# Altium footprint library E-pico.PcbLib: 10 footprints
Each footprint in its own frame and in the unit in brackets; x right, y up, seen from the top. Pads: shape width x height; smd on the part's side, far side on the other; paste and mask are expansions set on the pad; w line width, h text height; cw(c..) or ccw(c..) is an arc to the next point about the centre after c.
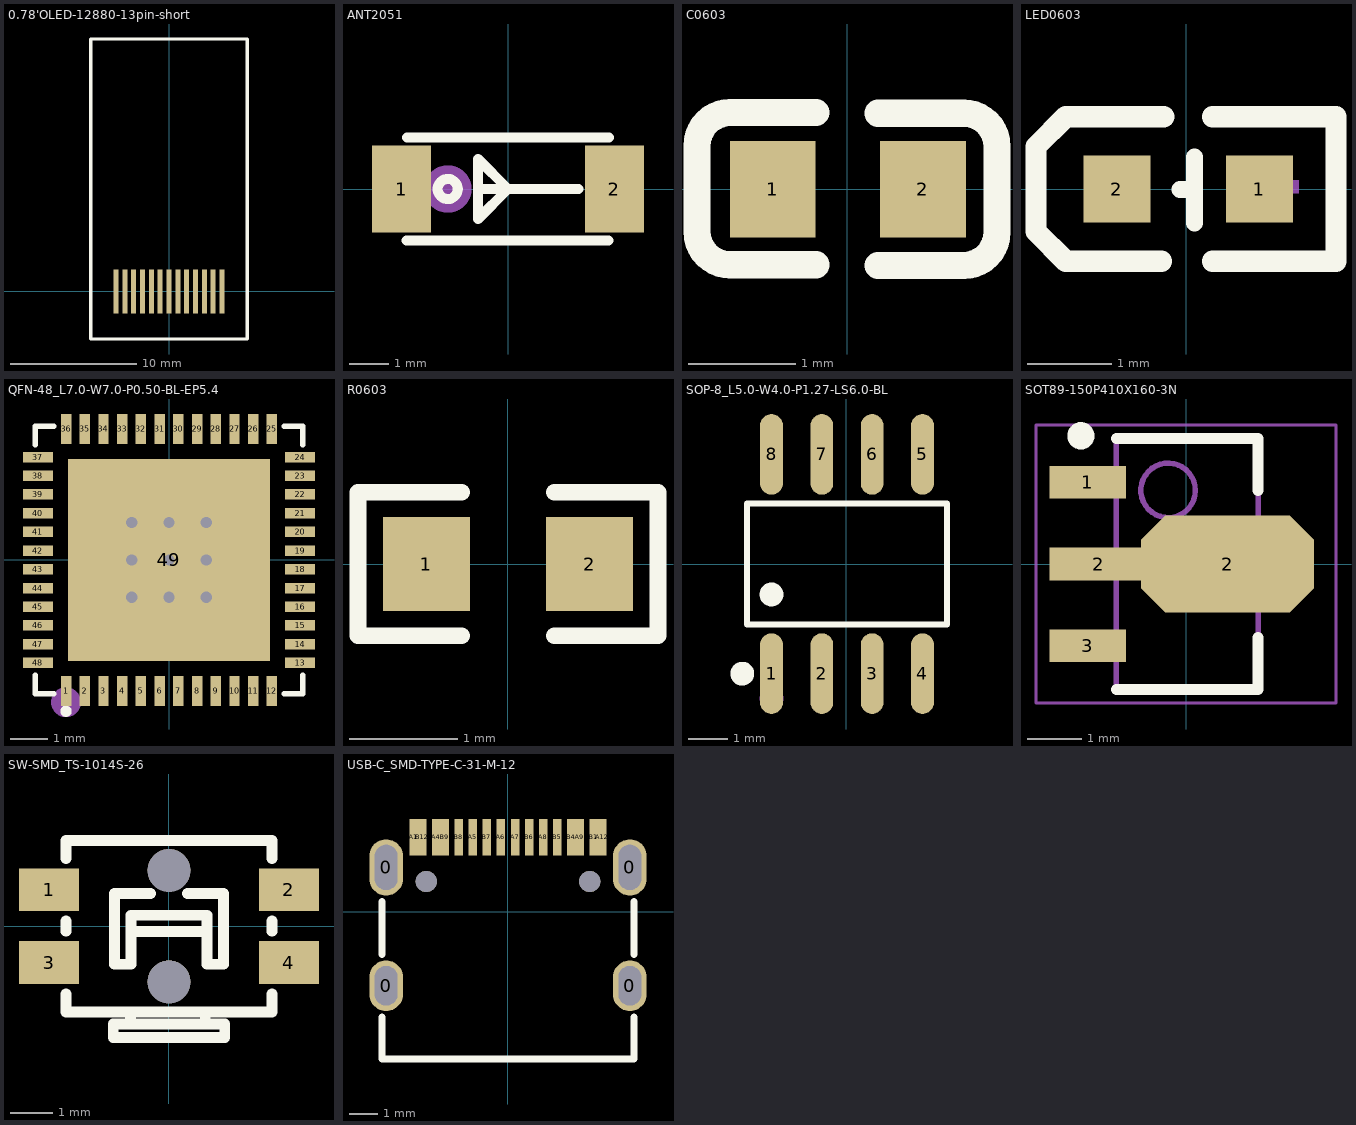
[diagram p0: the footprints below, top view; thin cyan lines are the x and y axes]

## 0.78'OLED-12880-13pin-short [mm]
pads (14):
  rect 0.4x3.5 smd: 1(-4.2,0) 1(-4.2,0) 2(-3.5,0) 3(-2.8,0) 4(-2.1,0) 5(-1.4,0) 6(-0.7,0) 7(0,0) 8(0.7,0) 9(1.4,0) 10(2.1,0) 11(2.8,0) 12(3.5,0) 13(4.2,0)
Top Overlay:
  lines w0.254: -6.2,-3.772 6.2,-3.772 6.2,20.028 -6.2,20.028 -6.2,-3.772

## ANT2051 [mm]
pads (2):
  rect 1.5x2.2 smd: 1(-2.69,0) 2(2.69,0)
Top Overlay:
  circle w0.254: c-1.524,0 r0.254
  lines w0.254: -2.56,-1.3 2.539,-1.3 ; -2.55,1.3 2.55,1.3 ; -0.762,0 1.778,0 ; -0.762,-0.762 -0.762,0.762 0,0 -0.762,-0.762
Mechanical 15:
  circle w0.6: c-1.524,0 r0.3
3D body "AN2051-245.stp": height 1.2, standoff 0, extent -2.607,-0.996 2.591,1.003

## C0603 [mm]
pads (2):
  rect 0.8x0.9 smd: 1(-0.692,-0.003) 2(0.708,-0.003)
Top Overlay:
  lines w0.254: -0.288,-0.707 -1.088,-0.707 cw(c-1.088,-0.397) -1.398,-0.397 -1.398,0.403 cw(c-1.088,0.403) -1.088,0.713 -0.288,0.713 ; 0.288,-0.713 1.088,-0.713 ccw(c1.088,-0.403) 1.398,-0.403 1.398,0.397 ccw(c1.088,0.397) 1.088,0.707 0.288,0.707
3D body "C0603.stp": height 0.8, standoff 0, extent -0.8,-0.4 0.8,0.4

## LED0603 [mm]
pads (2):
  rect 0.8x0.8 smd: 1(0.876,0) 2(-0.826,0)
Top Overlay:
  lines w0.203: -0.074,-0.008 0.102,-0.008 ; 0.102,-0.406 0.102,0.381
  lines w0.254: -0.292,-0.864 -1.435,-0.864 -1.791,-0.508 -1.791,0.508 -1.435,0.864 -0.267,0.864 ; 0.318,-0.864 1.791,-0.864 1.791,0.864 0.318,0.864
Mechanical 15:
  region: 0.686,0.102 1.346,0.102 1.346,-0.051 0.686,-0.051
  region: 0.961,-0.275 0.961,0.385 1.113,0.385 1.113,-0.275
  region: -1.168,0.05 -0.508,0.05 -0.508,-0.103 -1.168,-0.103
3D body "ALSRobot-LED0603(G).step": height 0.6, standoff 0, extent -0.81,-0.4 0.81,0.4

## QFN-48_L7.0-W7.0-P0.50-BL-EP5.4 [mm]
pads (49):
  rect 0.28x0.8 smd: 1(-2.75,-3.5) 2(-2.25,-3.5) 3(-1.75,-3.5) 4(-1.25,-3.5) 5(-0.75,-3.5) 6(-0.25,-3.5) 7(0.25,-3.5) 8(0.75,-3.5) 9(1.25,-3.5) 10(1.75,-3.5) 11(2.25,-3.5) 12(2.75,-3.5) 25(2.75,3.5) 26(2.25,3.5) 27(1.75,3.5) 28(1.25,3.5) 29(0.75,3.5) 30(0.25,3.5) 31(-0.25,3.5) 32(-0.75,3.5) 33(-1.25,3.5) 34(-1.75,3.5) 35(-2.25,3.5) 36(-2.75,3.5)
  rect 0.8x0.28 smd: 13(3.5,-2.75) 14(3.5,-2.25) 15(3.5,-1.75) 16(3.5,-1.25) 17(3.5,-0.75) 18(3.5,-0.25) 19(3.5,0.25) 20(3.5,0.75) 21(3.5,1.25) 22(3.5,1.75) 23(3.5,2.25) 24(3.5,2.75) 37(-3.5,2.75) 38(-3.5,2.25) 39(-3.5,1.75) 40(-3.5,1.25) 41(-3.5,0.75) 42(-3.5,0.25) 43(-3.5,-0.25) 44(-3.5,-0.75) 45(-3.5,-1.25) 46(-3.5,-1.75) 47(-3.5,-2.25) 48(-3.5,-2.75)
  rect 5.4x5.4 smd: 49(0,0)
via 0,0 diameter 0.61 hole 0.305
via -1,0 diameter 0.61 hole 0.305
via 1,-1 diameter 0.61 hole 0.305
via -1,-1 diameter 0.61 hole 0.305
via 1,0 diameter 0.61 hole 0.305
via 1,1 diameter 0.61 hole 0.305
via -1,1 diameter 0.61 hole 0.305
via 0,1 diameter 0.61 hole 0.305
via 0,-1 diameter 0.61 hole 0.305
Top Overlay:
  circle w0.15: c-2.75,-4.04 r0.075
  lines w0.152: -3.576,-3.08 -3.576,-3.576 -3.08,-3.576 ; -3.576,3.081 -3.576,3.576 -3.08,3.576 ; 3.081,-3.576 3.576,-3.576 3.576,-3.08 ; 3.081,3.576 3.576,3.576 3.576,3.081
Mechanical 15:
  circle w0.4: c-2.75,-3.8 r0.2
3D body "QFN48.step": height 0.9, standoff 0, extent -3.51,-3.51 3.51,3.51

## R0603 [mm]
pads (2):
  rect 0.806x0.864 smd: 1(-0.753,0) 2(0.753,0)
Top Overlay:
  lines w0.152: -0.426,-0.661 -1.385,-0.661 -1.385,0.661 -0.426,0.661 ; 0.426,-0.661 1.385,-0.661 1.385,0.661 0.426,0.661
Top Paste:
  region: 1.195,0.45 0.395,0.45 0.345,0.4 0.345,0.172 0.715,0.172 0.715,-0.158 0.345,-0.158 0.345,-0.4 0.395,-0.45 1.195,-0.45 1.245,-0.4 1.245,0.4
  region: -0.355,0.4 -0.355,0.172 -0.735,0.172 -0.735,-0.158 -0.355,-0.158 -0.355,-0.4 -0.405,-0.45 -1.195,-0.45 -1.245,-0.4 -1.245,0.4 -1.195,0.45 -0.405,0.45
3D body "R0603.stp": height 0.8, standoff 0, extent -0.8,-0.4 0.8,0.4

## SOP-8_L5.0-W4.0-P1.27-LS6.0-BL [mm]
pads (8):
  oval 0.574x2.036 smd: 1(-1.885,-2.768) 2(-0.615,-2.768) 3(0.655,-2.768) 4(1.925,-2.768) 5(1.925,2.768) 6(0.655,2.768) 7(-0.615,2.768) 8(-1.885,2.768)
Top Overlay:
  circle w0.3: c-1.885,-0.769 r0.15
  circle w0.3: c-2.624,-2.768 r0.15
  lines w0.152: -2.506,-1.521 -2.506,1.521 2.546,1.521 2.546,-1.521 -2.506,-1.521
Mechanical 15:
  circle w0.3: c-1.885,-3.398 r0.15
3D body "SOP8.stp": height 1.5, standoff 0, extent -2.502,-3.099 2.502,3.099

## SOT89-150P410X160-3N [mm] "SOT89, 3-Leads, Body 4.50x2.45mm, Pitch 1.50mm, Lead Span 4.1mm, IPC Medium Density"
height 1.6
pads (4):
  rect 1.4x0.6 smd: 1(-1.8,1.5) 3(-1.8,-1.5)
  rect 1.8x0.6 smd: 2(-1.6,0)
  oct 3.175x1.778 smd: 2(0.762,0)
Top Overlay:
  circle w0.25: c-1.927,2.35 r0.125
  lines w0.2: -1.278,-2.3 1.322,-2.3 1.322,-1.35 ; -1.278,2.3 1.322,2.3 1.322,1.35
Mechanical 13:
  circle w0.1: c-0.327,1.35 r0.5
  lines w0.1: -1.278,-2.3 1.322,-2.3 1.322,2.3 -1.278,2.3 -1.278,-2.3
Mechanical 15:
  lines w0.05: -2.75,-2.55 2.75,-2.55 2.75,2.55 -2.75,2.55 -2.75,-2.55
  lines w0.1: -0.477,0 0.523,0 ; 0.022,-0.5 0.022,0.5
3D body "SOT-89-3.stp": height 1.61, standoff 0, extent -2.235,-2.15 1.864,2.15

## SW-SMD_TS-1014S-26 [mm]
pads (6):
  rect 1.4x1 smd: 1(-2.8,0.85) 2(2.8,0.85) 3(-2.8,-0.85) 4(2.8,-0.85)
  round 1 hole 1 unplated: ""(0,-1.3) ""(0,1.3)
Top Overlay:
  lines w0.254: -2.4,-1.581 -2.4,-2 2.4,-2 2.4,-1.581 ; -2.4,-0.119 -2.4,0.119 ; -2.4,1.581 -2.4,2 2.4,2 2.4,1.581 ; -0.895,-2.286 -0.895,-2 ; -0.889,-0.127 0.889,-0.127 ; -0.435,0.762 -1.27,0.762 -1.27,-0.889 -0.889,-0.889 -0.889,0.254 -0.762,0.254 0.889,0.254 0.889,-0.889 1.27,-0.889 1.27,0.762 0.435,0.762 ; 0.845,-2.286 0.845,-2 ; 2.4,-0.119 2.4,0.119 ; -1.3,-2.6 1.3,-2.6 1.3,-2.286 -1.3,-2.286 -1.3,-2.6
3D body "3D_PCB1_2021-11-20.stp": height 1.65, standoff -0.5, extent -3.1,-2.799 3.1,1.798

## USB-C_SMD-TYPE-C-31-M-12 [mm]
pads (22):
  oval 1.2x1.8 hole 0.8 slot 1.4 at 90 deg: 0(-4.325,-2.634) 0(4.325,-2.634)
  oval 1.2x2 hole 0.8 slot 1.6 at 90 deg: 0(-4.325,1.566) 0(4.325,1.566)
  rect 0.3x1.3 smd: A1(-3.35,2.634) A4(-2.55,2.634) A5(-1.25,2.634) A6(-0.25,2.634) A7(0.25,2.634) A8(1.25,2.634) A9(2.55,2.634) A12(3.35,2.634) B1(3.05,2.634) B4(2.25,2.634) B5(1.75,2.634) B6(0.75,2.634) B7(-0.75,2.634) B8(-1.75,2.634) B9(-2.25,2.634) B12(-3.05,2.634)
  round 0.75 hole 0.75 unplated: ""(-2.9,1.066) ""(2.9,1.066)
Top Overlay:
  lines w0.254: -4.469,-3.753 -4.469,-5.234 4.471,-5.234 4.471,-3.752 ; -4.469,-1.516 -4.469,0.347 ; 4.471,-1.516 4.471,0.348
Top Paste:
  drawing of 16 lines, arcs and shapes, not listed
Mechanical 15:
  circle w0.25: c-2.9,1.066 r0.125
  circle w0.25: c2.9,1.066 r0.125
3D body "USBC_port_16pin.stp": height 3.23, standoff -0.87, extent -4.47,-5.235 4.47,2.664